# Altium integrated library shared_lib.IntLib: 84 symbols
Pins are listed as number, name and electrical type; pins without a type are passive.

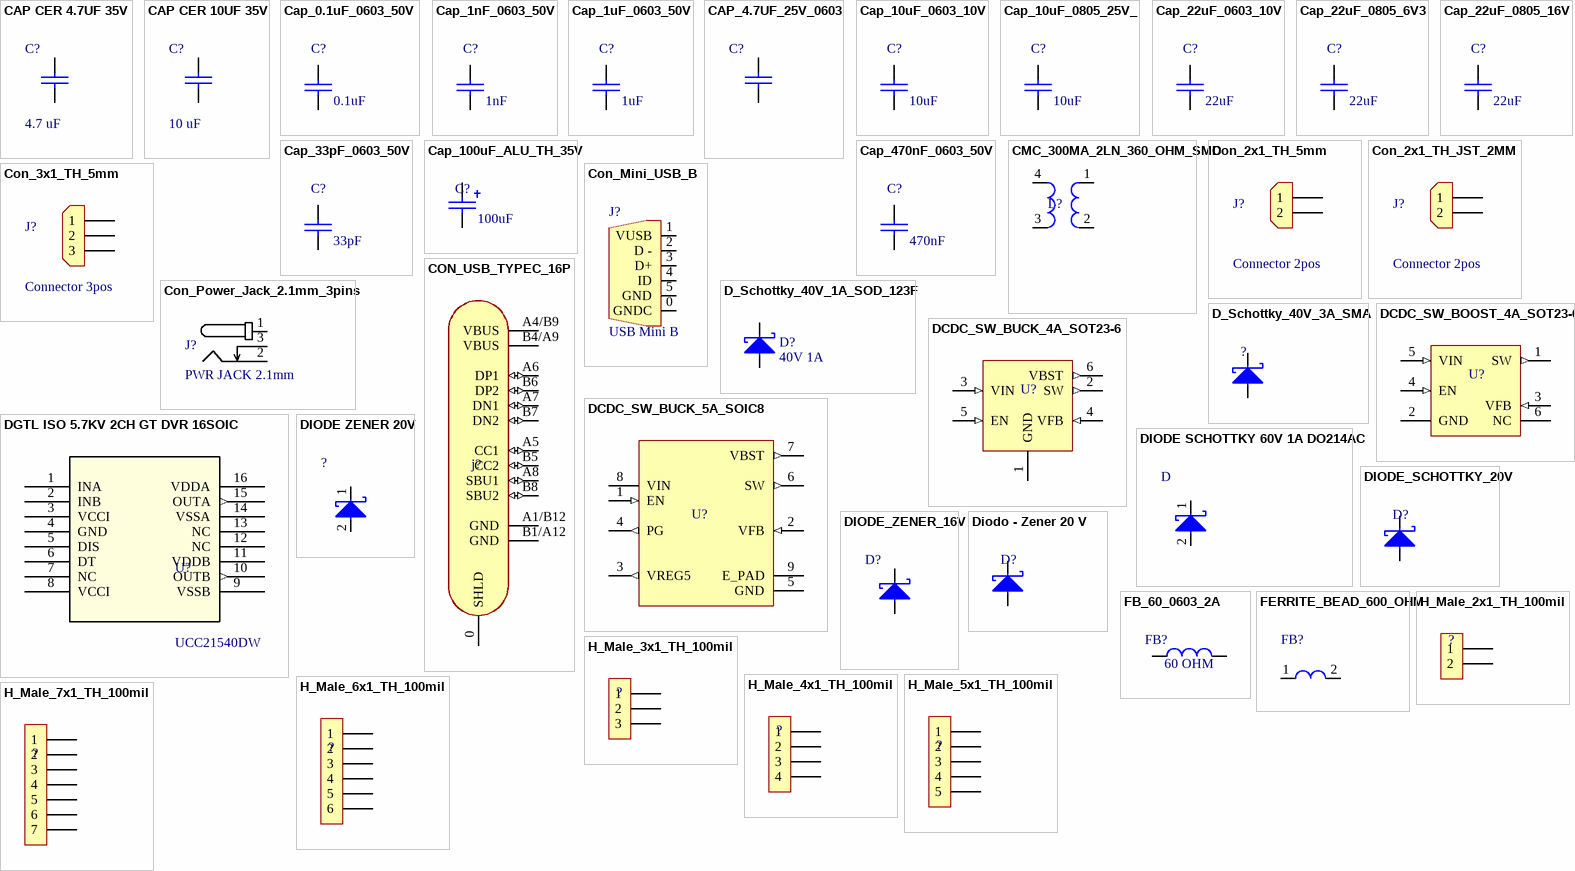
[diagram p0: symbols CAP CER 4.7UF 35V to H_Male_7x1_TH_100mil]

## CAP CER 4.7UF 35V
designator C?, comment 4.7 uF
CAP CER 4.7UF 35V X5R 0603; Manufacturer: Murata Electronics; Manufacturer Part Number: GRM188R6YA475KE15D; ComponentLink1Description: DigiKEy; ComponentLink1URL: https://www.digikey.com/es/products/detail/murata-electronics/GRM188R6YA475KE15D/3900468; Supplier 1: DigiKey; Supplier Part Number 1: 490-7205-2-ND
footprint 0603_cap
pins: 1, 2

## CAP CER 10UF 35V
designator C?, comment 10 uF
CAP CER 10UF 35V X5R 0603; Manufacturer: Murata Electronics; Manufacturer Part Number: GRM188R6YA106MA73J; ComponentLink1Description: DigiKEy; ComponentLink1URL: https://www.digikey.com/es/products/detail/murata-electronics/GRM188R6YA106MA73J/8346265; Supplier 1: DigiKey; Supplier Part Number 1: 490-GRM188R6YA106MA73JCT-ND
footprint 0603_cap
pins: 1, 2

## Cap_0.1uF_0603_50V
designator C?, comment value 0.1uF  (hidden comment: 0.1uF 50V)
50V 100nF Y5V -20%~+80% 0603 Multilayer Ceramic Capacitors MLCC - SMD/SMT ROHS; Manufacturer: Walsin Tech Corp; Manufacturer Part Number: 0603F104Z500CT; Supplier 1: LCSC; Supplier Part Number 1: C83060; ComponentLink1Description: LCSC; ComponentLink1URL: https://www.lcsc.com/product-detail/Multilayer-Ceramic-Capacitors-MLCC-SMD-SMT_Walsin-Tech-Corp-0603F104Z500CT_C83060.html
footprint 0603_cap
pins: 1, 2

## Cap_1nF_0603_50V
designator C?, comment value 1nF  (hidden comment: 1nF 50V)
50V 1nF X7R ±10% 0603 Multilayer Ceramic Capacitors MLCC - SMD/SMT ROHS; Manufacturer: YAGEO; Manufacturer Part Number: CC0603KRX7R9BB102; Supplier 1: LCSC; Supplier Part Number 1: C100040; ComponentLink1Description: LCSC; ComponentLink1URL: https://www.lcsc.com/product-detail/Multilayer-Ceramic-Capacitors-MLCC-SMD-SMT_YAGEO-CC0603KRX7R9BB102_C100040.html
footprint 0603_cap
pins: 1, 2

## Cap_1uF_0603_50V
designator C?, comment value 1uF  (hidden comment: 1uF 50V)
50V 1uF X5R ±10% 0603 Multilayer Ceramic Capacitors MLCC - SMD/SMT ROHS; Manufacturer: Samsung Electro-Mechanics; Manufacturer Part Number: CL10A105KB8NNNC; Supplier 1: LCSC; Supplier Part Number 1: C15849; ComponentLink1Description: LCSC; ComponentLink1URL: https://www.lcsc.com/product-detail/Multilayer-Ceramic-Capacitors-MLCC-SMD-SMT_Samsung-Electro-Mechanics-CL10A105KB8NNNC_C15849.html
footprint 0603_cap
pins: 1, 2

## CAP_4.7UF_25V_0603
designator C?
CAP CER 4.7UF 25V X5R 0603; Manufacturer: Murata Electronics; Manufacturer Part Number: GRM188R61E475KE11D; ComponentLink1Description: DigiKEy; ComponentLink1URL: https://www.digikey.com/es/products/detail/murata-electronics/GRM188R61E475KE11D/3900465; Supplier 1: DigiKey; Supplier Part Number 1: 490-7203-1-ND
footprint 0603_cap
pins: 1, 2

## Cap_10uF_0603_10V
designator C?, comment value 10uF  (hidden comment: 10uF 10V)
10V 10uF X5R ±10% 0603 Multilayer Ceramic Capacitors MLCC - SMD/SMT ROHS; Manufacturer: CCTC; Manufacturer Part Number: TCC0603X5R106K100CT; Supplier 1: LCSC; Supplier Part Number 1: C380314; ComponentLink1Description: LCSC; ComponentLink1URL: https://www.lcsc.com/product-detail/Multilayer-Ceramic-Capacitors-MLCC-SMD-SMT_CCTC-TCC0603X5R106K100CT_C380314.html
footprint 0603_cap
pins: 1, 2

## Cap_10uF_0805_25V_
designator C?, comment value 10uF  (hidden comment: 10uF 25V)
25V 10uF X5R ±10% 0805 Multilayer Ceramic Capacitors MLCC - SMD/SMT ROHS; Manufacturer: Samsung Electro-Mechanics; Manufacturer Part Number: CL21A106KAYNNNE; Supplier 1: LCSC; Supplier Part Number 1: C15850; ComponentLink1Description: LCSC; ComponentLink1URL: https://lcsc.com/product-detail/Multilayer-Ceramic-Capacitors-MLCC-SMD-SMT_Samsung-Electro-Mechanics-CL21A106KAYNNNE_C15850.html
footprint 0805_cap
pins: 1, 2

## Cap_22uF_0603_10V
designator C?, comment value 22uF  (hidden comment: 22uF 10V)
10V 22uF X5R ±20% 0603 Multilayer Ceramic Capacitors MLCC - SMD/SMT ROHS; Manufacturer: HRE; Manufacturer Part Number: CGA0603X5R226M100JT; Supplier 1: LCSC; Supplier Part Number 1: C6119863; ComponentLink1Description: LCSC; ComponentLink1URL: https://lcsc.com/product-detail/Multilayer-Ceramic-Capacitors-MLCC-SMD-SMT_HRE-CGA0603X5R226M100JT_C6119863.html
footprint 0603_cap
pins: 1, 2

## Cap_22uF_0805_6V3
designator C?, comment value 22uF  (hidden comment: 22uF 6V3)
6.3V 22uF X5R ±20% 0805 Multilayer Ceramic Capacitors MLCC - SMD/SMT ROHS; Manufacturer: Samsung Electro-Mechanics; Manufacturer Part Number: CL21A226MQQNNNE; Supplier 1: LCSC; Supplier Part Number 1: C5674; ComponentLink1Description: LCSC; ComponentLink1URL: https://www.lcsc.com/product-detail/Multilayer-Ceramic-Capacitors-MLCC-SMD-SMT_Samsung-Electro-Mechanics-CL21A226MQQNNNE_C5674.html
footprint 0805_cap
pins: 1, 2

## Cap_22uF_0805_16V
designator C?, comment value 22uF  (hidden comment: 22uF 16V)
16V 22uF X5R ±20% 0805 Multilayer Ceramic Capacitors MLCC - SMD/SMT ROHS; Manufacturer: Chinocera; Manufacturer Part Number: HGC0805R5226M160NSLJ; Supplier 1: LCSC; Supplier Part Number 1: C33546008; ComponentLink1Description: LCSC; ComponentLink1URL: https://lcsc.com/product-detail/Multilayer-Ceramic-Capacitors-MLCC-SMD-SMT_Chinocera-HGC0805R5226M160NSLJ_C33546008.html
footprint 0805_cap
pins: 1, 2

## Cap_33pF_0603_50V
designator C?, comment value 33pF  (hidden comment: 33pF 50V)
50V 33pF NP0 ±5% 0603 Multilayer Ceramic Capacitors MLCC - SMD/SMT ROHS; Manufacturer: YAGEO; Manufacturer Part Number: CC0603JRNPO9BN330; Supplier 1: LCSC; Supplier Part Number 1: C107047; ComponentLink1Description: LCSC; ComponentLink1URL: https://www.lcsc.com/product-detail/Multilayer-Ceramic-Capacitors-MLCC-SMD-SMT_YAGEO-CC0603JRNPO9BN330_C107047.html
footprint 0603_cap
pins: 1, 2

## Cap_100uF_ALU_TH_35V
designator C?, comment value 100uF  (hidden comment: 100uF 35V)
100uF 35V ±20% Plugin,D6.3xL12mm Aluminum Electrolytic Capacitors - Leaded ROHS; Manufacturer: HRK; Manufacturer Part Number: 35V100uF CD110; Supplier 1: LCSC; Supplier Part Number 1: C2960381; ComponentLink1Description: LCSC; ComponentLink1URL: https://lcsc.com/product-detail/Aluminum-Electrolytic-Capacitors-Leaded_HRK-35V100uF-CD110_C2960381.html
footprint CAP_TH_2.5MM_6.3*12MM
pins: 1, 2

## Cap_470nF_0603_50V
designator C?, comment value 470nF  (hidden comment: 470nF 50V)
50V 470nF X7R ±10% 0603 Multilayer Ceramic Capacitors MLCC - SMD/SMT ROHS; Manufacturer: Chinocera; Manufacturer Part Number: HGC0603R7474K500NTHJ; Supplier 1: LCSC; Supplier Part Number 1: C33546006; ComponentLink1Description: LCSC; ComponentLink1URL: https://lcsc.com/product-detail/Multilayer-Ceramic-Capacitors-MLCC-SMD-SMT_Chinocera-HGC0603R7474K500NTHJ_C33546006.html
footprint 0603_cap
pins: 1, 2

## CMC_300MA_2LN_360_OHM_SMD
designator L?
2 Obturador de modo común de línea Montaje en superficie 360 Ohms @ 100 MHz 300mA DCR 500mOhm; Manufacturer: Bourns Inc.; Manufacturer Part Number: SRF2012-361YA; ComponentLink1Description: DigiKEy; ComponentLink1URL: https://www.digikey.com/es/products/detail/bourns-inc/SRF2012-361YA/2681268?s=N4IgTCBcDaIMoCUBiYAMBGMBaAzANnQE0BBEAXQF8g; Supplier 1: DigiKey; Supplier Part Number 1: SRF2012-361YACT-ND
footprint SRF2012-361YA
pins: 1, 2, 3, 4

## Con_2x1_TH_5mm
designator J?, comment Connector 2pos
2POS 5MM; Manufacturer: JILN; Manufacturer Part Number: JL126-50002G01; Supplier 1: LCSC; Supplier Part Number 1: C394556; ComponentLink1Description: Digi-Key; ComponentLink1URL: https://www.lcsc.com/product-detail/Screw-terminal_JILN-JL126-50002G01_C394556.html
footprint CON_2x1_TH_5MM
pins: 1, 2

## Con_2x1_TH_JST_2MM
designator J?, comment Connector 2pos
2POS 2MM; Manufacturer: JST; Manufacturer Part Number: S2B-PH-K-S(LF)(SN); Supplier 1: LCSC; Supplier Part Number 1: C173752; ComponentLink1Description: Digi-Key; ComponentLink1URL: https://lcsc.com/product-detail/Wire-To-Board-Connector_JST-S2B-PH-K-S-LF-SN_C173752.html
footprint CON_2x1_TH_2MM (/20190307/N-A.Potosi)
pins: 1, 2

## Con_3x1_TH_5mm
designator J?, comment Connector 3pos
1x3P 10A -40℃~+105℃ 300V Green 14~26 Through Hole 5mm 2.5 1 3 Plugin,P=5mm Screw Terminal Blocks ROHS; Manufacturer: MAX; Manufacturer Part Number: MX126-5.0-03P-GN01-Cu-S-A; Supplier 1: LCSC; Supplier Part Number 1: C5188435; ComponentLink1Description: Digi-Key; ComponentLink1URL: https://lcsc.com/product-detail/Screw-Terminal-Blocks_MAX-MX126-5-0-03P-GN01-Cu-S-A_C5188435.html
footprint CON_3x1_TH_5mm
pins: 1, 2, 3

## Con_Mini_USB_B
designator J?, comment USB Mini B
CONN RCPT USB2.0 MINI B SMD R/A; Manufacturer Part Number: KH-MINI-SMT-5P-Cu; Manufacturer: EDAC Inc.; ComponentLink1Description: LCSC; ComponentLink1URL: https://datasheet.lcsc.com/lcsc/2106070035_Shenzhen-Kinghelm-Elec-KH-MINI-SMT-5P-Cu_C2688795.pdf; Supplier 1: LCSC; Supplier Part Number 1: C2688795
footprint CON_5x1_SMD_miniUSB_B (20190328 / V-A.Patino)
pins: 0 GNDC, 1 VUSB, 2 D -, 3 D+, 4 ID, 5 GND

## Con_Power_Jack_2.1mm_3pins
designator J?, comment PWR JACK 2.1mm
CONN PWR JACK 2X5.5MM SOLDER; Manufacturer: HCTL; Manufacturer Part Number: HC-DC-005-2.0T; Supplier 1: LCSC; Supplier Part Number 1: C3010533; ComponentLink1Description: LCSC; ComponentLink1URL: https://www.lcsc.com/product-detail/AC-DC-Power-Connectors_HCTL-HC-DC-005-2-0T_C3010533.html
footprint CON_POWER_BARREL_2.1MM_3CONN (/ 20190222 / C-A.Serna.A)
pins: 1, 2, 3

## CON_USB_TYPEC_16P
designator j?, comment USB C  (value not drawn)
3A USB 3.1 1 Surface Mount 16P Female -40℃~+85℃ Type-C SMD USB Connectors ROHS; Manufacturer: SHOU HAN; Manufacturer Part Number: TYPE-C-3.1-16PIN; Supplier 1: LCSC; Supplier Part Number 1: C7507405; ComponentLink1Description: LCSC; ComponentLink1URL: https://lcsc.com/product-detail/USB-Connectors_SHOU-HAN-TYPE-C-3-1-16PIN_C7507405.html
footprint CON_USB_C_16P_RA
pins: 0 SHLD, A1/B12 GND (power), A4/B9 VBUS (power), A5 CC1 (io), A6 DP1 (io), A7 DN1 (io), A8 SBU1 (io), B1/A12 GND (power), B4/A9 VBUS (power), B5 CC2 (io), B6 DP2 (io), B7 DN2 (io), B8 SBU2 (io)

## D_Schottky_40V_1A_SOD_123F
designator D?, comment 40V 1A
DIODE SCHOTTKY 40V 1A SOD123F; Manufacturer: Shanghai Prisemi Elec; Manufacturer Part Number: PSBD1DF40V1H; Supplier 1: LCSC; Supplier Part Number 1: C110730; ComponentLink1Description: LCSC; ComponentLink1URL: https://www.lcsc.com/product-detail/Switching-Diode_Shanghai-Prisemi-Elec-PSBD1DF40V1H_C110730.html
footprint SOD_123 (/ 20191030 / V-A.Patino)
pins: 1, 2

## D_Schottky_40V_3A_SMA
designator ?, comment 30V 3A  (value not drawn)
40V Independent 3A 550mV@3A SMA Schottky Diodes ROHS; Manufacturer: TDSEMIC; Manufacturer Part Number: SS34-TD; Supplier 1: LCSC; Supplier Part Number 1: C46550832; ComponentLink1Description: LCSC; ComponentLink1URL: https://lcsc.com/product-detail/Schottky-Diodes_TDSEMIC-SS34-TD_C46550832.html
footprint SMA
pins: 1, 2

## DCDC_SW_BOOST_4A_SOT23-6
designator U?, comment TPS564201DDCR  (value not drawn)
IC REG BUCK ADJ 4A SOT23; Manufacturer: XI'AN Aerosemi Tech; Manufacturer Part Number: MT3608B; Supplier 1: LCSC; Supplier Part Number 1: C19189893; ComponentLink1Description: LCSC; ComponentLink1URL: https://lcsc.com/product-detail/DC-DC-Converters_XI-AN-Aerosemi-Tech-MT3608B_C19189893.html
footprint SOT_23_6 (/ 20190225 / V-A.Patino)
pins: 1 SW (out), 2 GND (power), 3 VFB (in), 4 EN (in), 5 VIN (in), 6 NC

## DCDC_SW_BUCK_4A_SOT23-6
designator U?, comment TPS564201DDCR  (value not drawn)
IC REG BUCK ADJ 4A SOT23; Manufacturer: Texas Instruments; Manufacturer Part Number: TPS564201DDCR; Supplier 1: LCSC; Supplier Part Number 1: C464812; ComponentLink1Description: LCSC; ComponentLink1URL: https://lcsc.com/product-detail/DC-DC-Converters_Texas-Instruments-TPS564201DDCR_C464812.html
footprint SOT_23_6 (/ 20190225 / V-A.Patino)
pins: 1 GND (power), 2 SW (out), 3 VIN (in), 4 VFB (in), 5 EN (in), 6 VBST (out)

## DCDC_SW_BUCK_5A_SOIC8
designator U?, comment TPS56528DDAR  (value not drawn)
IC REG BUCK ADJ 5A 8SOPWR; Manufacturer: Texas Instruments; Manufacturer Part Number: TPS56528DDAR; Supplier 1: LCSC; Supplier Part Number 1: C138716; ComponentLink1Description: LCSC; ComponentLink1URL: https://lcsc.com/product-detail/DC-DC-Converters_Texas-Instruments-TPS56528DDAR_C138716.html
footprint SOIC_8_3.9mm_EP
pins: 1 EN (in), 2 VFB (in), 3 VREG5 (out), 4 PG (out), 5 GND (power), 6 SW (out), 7 VBST (out), 8 VIN (power), 9 E_PAD (power)

## DGTL ISO 5.7KV 2CH GT DVR 16SOIC
designator U?, comment UCC21540DW
4A, 6A Controladores de compuerta Acoplamiento capacitivo 5700Vrms 2 canal 16-SOIC; Manufacturer: Texas Instruments; ComponentLink1Description: DigiKEy; ComponentLink1URL: https://www.digikey.com/es/products/detail/texas-instruments/UCC21540DW/9860890; Supplier 1: DigiKey; Supplier Part Number 1: 296-53088-ND; Manufacturer Part Number: UCC21540DW
footprint UCC21540DW
pins: 1 INA, 2 INB, 3 VCCI (power), 4 GND (power), 5 DIS, 6 DT, 7 NC, 8 VCCI (power), 9 VSSB (power), 10 OUTB (out), 11 VDDB (power), 12 NC, 13 NC, 14 VSSA (power), 15 OUTA (out), 16 VDDA (power)

## DIODE SCHOTTKY 60V 1A DO214AC
designator D
Diodos 60 V 1A Montaje en superficie DO-214AC (SMA); Manufacturer: Taiwan Semiconductor Corporation; Manufacturer Part Number: SS16; ComponentLink1Description: DigiKEy; ComponentLink1URL: https://www.digikey.com/es/products/detail/taiwan-semiconductor-corporation/SS16/7369359; Supplier 1: DigiKey; Supplier Part Number 1: 1801-SS16CT-ND
footprint SS16
pins: 1, 2

## DIODE ZENER 20V
designator ?, comment 20V  (value not drawn)
Diodos 60 V 1A Montaje en superficie DO-214AC (SMA); Manufacturer: Good-Ark Semiconductor; Manufacturer Part Number: MMSZ5250B; ComponentLink1Description: DigiKEy; ComponentLink1URL: https://www.digikey.com/es/products/detail/good-ark-semiconductor/MMSZ5250B/18667706; Supplier 1: DigiKey; Supplier Part Number 1: 4786-MMSZ5250BCT-ND
footprint SOD-123_ONS
pins: 1, 2

## DIODE_SCHOTTKY_20V
designator D?
DIODE SCHOTTKY 20V 500MA SOD123; Manufacturer: onsemi; Manufacturer Part Number: MBR0520LT1G; Supplier 1: DigiKey; Supplier Part Number 1: DigiKey; ComponentLink1Description: DigiKey; ComponentLink1URL: https://www.digikey.com/es/products/detail/onsemi/MBR0520LT1G/918574?s=N4IgTCBcDaILICEBKAGArGFAZAKgRgHEQBdAXyA
footprint SOD-123_ONS
pins: 1, 2

## DIODE_ZENER_16V
designator D?
DIODE ZENER 16V 500MW SOD123; Manufacturer: onsemi; Manufacturer Part Number: MMSZ4703T1G; ComponentLink1Description: DigiKEy; ComponentLink1URL: https://www.digikey.com/es/products/detail/bourns-inc/PAD002-T764113S/15297652?s=N4IgTCBcDaIAoEEAiAGFYC0AVA7ANgBYBGIgZgGUQBdAXyA; Supplier 1: DigiKey; Supplier Part Number 1: MMSZ4703T1GOSCT-ND
footprint SOD-123_ONS
pins: 1, 2

## Diodo - Zener 20 V
designator D?
-55℃~+150℃ 1 Independent 100nA@15V 19V~21V 20V 25Ω 500mW 600Ω SOD-123 Zener Diodes ROHS; Manufacturer: Slkor(SLKORMICRO Elec.); Manufacturer Part Number: MMSZ5250B; Supplier 1: JLCPCB; Supplier Part Number 1: C707177; ComponentLink1Description: JLCPCB; ComponentLink1URL: https://jlcpcb.com/partdetail/Slkor_SLKORMICRO_Elec-MMSZ5250B/C707177
footprint SOD-123_ONS
pins: 1, 2

## FB_60_0603_2A
designator FB?, comment value 60 OHM  (hidden comment: 60OHM 2A)
2A 1 100mΩ 60Ω@100MHz ±25% 0603 Ferrite Beads ROHS; Manufacturer: TAI-TECH; Manufacturer Part Number: HCB1608KF-600T20; ComponentLink1Description: LCSC; ComponentLink1URL: https://www.lcsc.com/product-detail/Ferrite-Beads_TAI-TECH-HCB1608KF-600T20_C369516.html; Supplier 1: LCSC; Supplier Part Number 1: C369516
footprint 0603_fb
pins: 1, 2

## FERRITE_BEAD_600_OHM
designator FB?
FERRITE BEAD 600 OHM 0603 4LN; Manufacturer: Bourns Inc.; Manufacturer Part Number: MH1608-601Y; ComponentLink1Description: DigiKEy; ComponentLink1URL: https://www.digikey.com/en/products/detail/bourns-inc/MH1608-601Y/2563317; Supplier 1: DigiKey; Supplier Part Number 1: MH1608-601YCT-ND
footprint MH1608
pins: 1, 2

## H_Male_2x1_TH_100mil
designator ?, comment 2x1  (value not drawn)  (no BOM)
H_Male_2x1_TH_100mil; ComponentLink1Description: LCSC
footprint H_2x1_TH_100mil
pins: 1, 2

## H_Male_3x1_TH_100mil
designator ?, comment 3x1  (value not drawn)  (no BOM)
H_Male_3x1_TH_100mil; ComponentLink1Description: LCSC
footprint H_3X1_TH_100mil
pins: 1, 2, 3

## H_Male_4x1_TH_100mil
designator ?, comment 4x1  (value not drawn)  (no BOM)
H_Male_4x1_TH_100mil; ComponentLink1Description: LCSC
footprint H_4x1_TH_2.54mm
pins: 1, 2, 3, 4

## H_Male_5x1_TH_100mil
designator ?, comment 5x1  (value not drawn)  (no BOM)
H_Male_5x1_TH_100mil; ComponentLink1Description: LCSC
footprint H_5x1_TH_100mil
pins: 1, 2, 3, 4, 5

## H_Male_6x1_TH_100mil
designator ?, comment 6x1  (value not drawn)  (no BOM)
H_Male_6x1_TH_100mil; ComponentLink1Description: LCSC
footprint H_6x1_TH_100mil
pins: 1, 2, 3, 4, 5, 6

## H_Male_7x1_TH_100mil
designator ?, comment 7x1  (value not drawn)  (no BOM)
H_Male_7x1_TH_100mil; ComponentLink1Description: LCSC
footprint H_7x1_TH_100mil
pins: 1, 2, 3, 4, 5, 6, 7

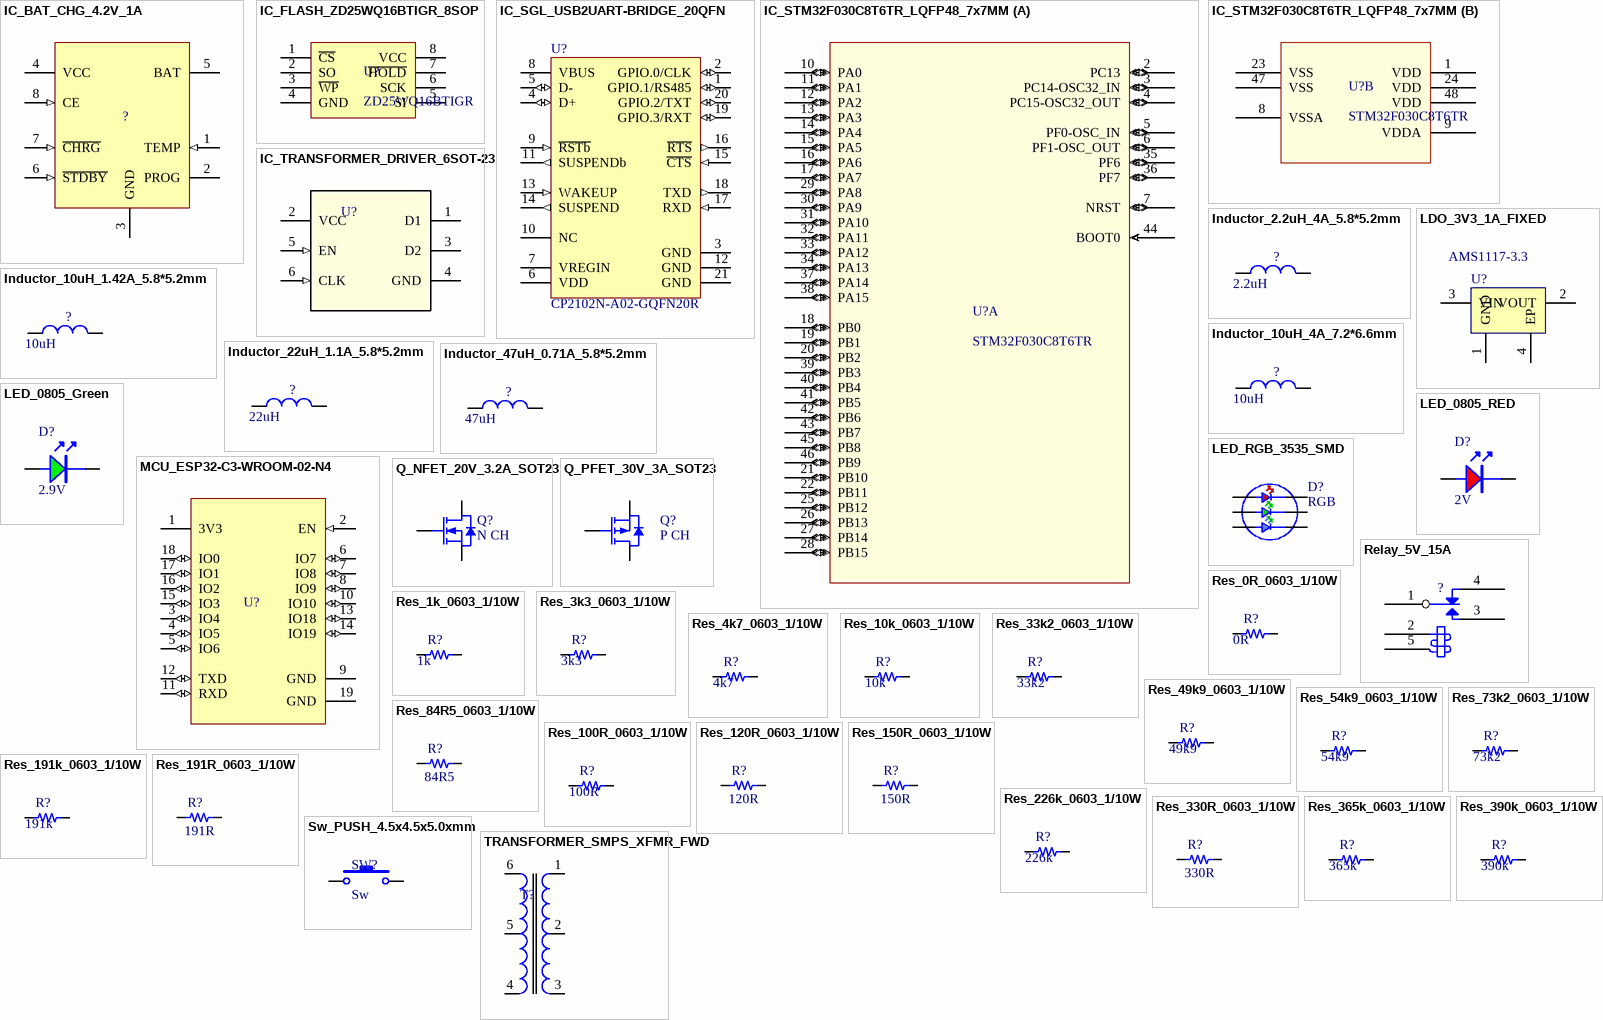
[diagram p1: symbols IC_BAT_CHG_4.2V_1A to TRANSFORMER_SMPS_XFMR_FWD]

## IC_BAT_CHG_4.2V_1A
designator ?, comment 4.2V 1A  (value not drawn)
-300mV~8V Lithium-ion/Polymer 1 1A ESOP-8 Battery Management ROHS; Manufacturer: YONGYUTAI; Manufacturer Part Number: TP4056; Supplier 1: LCSC; Supplier Part Number 1: C20199357; ComponentLink1Description: LCSC; ComponentLink1URL: https://lcsc.com/product-detail/Battery-Management_YONGYUTAI-TP4056_C20199357.html
footprint SOIC_8_3.9mm
pins: 1 TEMP (in), 2 PROG, 3 GND, 4 VCC, 5 BAT (power), 6 ~{STDBY} (in), 7 ~{CHRG} (in), 8 CE (in)

## IC_FLASH_ZD25WQ16BTIGR_8SOP
designator U?, comment ZD25WQ16BTIGR
IC FLASH 16M SPI 85MHZ 8SOP; Manufacturer: Zetta; Manufacturer Part Number: ZD25WQ16BTIGR; Supplier 1: LCSC; Supplier Part Number 1: C2896790; ComponentLink1Description: LCSC; ComponentLink1URL: https://www.lcsc.com/product-detail/NOR-FLASH_Zetta-ZD25WQ16BTIGR_C2896790.html
footprint SOIC_8_3.9mm (/ 20190225 / C-A.Serna.A)
pins: 1 ~{CS}, 2 SO, 3 ~{WP}, 4 GND, 5 SI, 6 SCK, 7 ~{HOLD}, 8 VCC

## IC_SGL_USB2UART-BRIDGE_20QFN
designator U?, comment CP2102N-A02-GQFN20R
IC USB TO UART BRIDGE QFN20; Manufacturer: Silicon Labs; Manufacturer Part Number: CP2102N-A02-GQFN20R; Supplier 1: LCSC; Supplier Part Number 1: C969913; ComponentLink1Description: LCSC; ComponentLink1URL: https://www.lcsc.com/product-detail/USB-ICs_SILICON-LABS-CP2102N-A02-GQFN20R_C969913.html
footprint WFQFN_20_EP_3X3MM (QFN_20/ 20210809/ V-A.Patino)
pins: 1 GPIO.1/RS485 (io), 2 GPIO.0/CLK (io), 3 GND (power) "Ground", 4 D+ (io) "USB Data Positive", 5 D- (io) "USB Data Negative", 6 VDD (power) "Supply Power Input/5V Regulator Output", 7 VREGIN (power) "5V Regulator Input", 8 VBUS (power) "Digital Input. VBUS Sense Input. This pin should be connected to the VBUS signal of a USBnetwork. A 5 V signal on this pin indicates a USB network connection", 9 ~{RSTb} (in) "Active-low Reset", 10 NC "No Connect (leave this pin floating)", 11 SUSPENDb (out) "Digital Output. This pin is driven low when the device enters the USB suspend state.", 12 GND (power) "Ground", 13 WAKEUP (in) "Digital Input. Remote USB wakeup interrupt input.", 14 SUSPEND (out) "Digital Output. This pin is driven high when the device enters the USB suspend state", 15 ~{CTS} (in) "Digital Input. Clear To Send control input (active low).", 16 ~{RTS} (out) "Digital Output. Ready To Send control output (active low).", 17 RXD (in) "Digital Input. Asynchronous data input (UART Receive).", 18 TXD (out) "Digital Output. Asynchronous data output (UART Transmit)", 19 GPIO.3/RXT (io), 20 GPIO.2/TXT (io), 21 GND (power) "Ground"

## IC_STM32F030C8T6TR_LQFP48_7x7MM
designator U?, comment STM32F030C8T6TR
IC MCU 32BIT 64KB FLASH 48LQFP; Manufacturer: STMicroelectronics; Manufacturer part number: STM32F030C8T6TR; Supplier 1: LCSC; Supplier Part Number 1: C23922; ComponentLink1Description: LCSC; ComponentLink1URL: https://www.lcsc.com/product-detail/ST-Microelectronics_STMicroelectronics-STM32F030C8T6_C23922.html
footprint LQFP48_7x7mm
part A pins: 2 PC13 (io), 3 PC14-OSC32_IN (io), 4 PC15-OSC32_OUT (io), 5 PF0-OSC_IN (io), 6 PF1-OSC_OUT (io), 7 NRST (io), 10 PA0 (io), 11 PA1 (io), 12 PA2 (io), 13 PA3 (io), 14 PA4 (io), 15 PA5 (io), 16 PA6 (io), 17 PA7 (io), 18 PB0 (io), 19 PB1 (io), 20 PB2 (io), 21 PB10 (io), 22 PB11 (io), 25 PB12 (io), 26 PB13 (io), 27 PB14 (io), 28 PB15 (io), 29 PA8 (io), 30 PA9 (io), 31 PA10 (io), 32 PA11 (io), 33 PA12 (io), 34 PA13 (io), 35 PF6 (io), 36 PF7 (io), 37 PA14 (io), 38 PA15 (io), 39 PB3 (io), 40 PB4 (io), 41 PB5 (io), 42 PB6 (io), 43 PB7 (io), 44 BOOT0 (in), 45 PB8 (io), 46 PB9 (io)
part B pins: 1 VDD (power), 8 VSSA (power), 9 VDDA (power), 23 VSS (power), 24 VDD (power), 47 VSS (power), 48 VDD (power)

## IC_TRANSFORMER_DRIVER_6SOT-23
designator U?
IC TRANSFORMER DRIVER 6SOT-23; Manufacturer Part Number: SN6505BDBVR; Manufacturer: Texas Instruments; ComponentLink1Description: DigiKey; ComponentLink1URL: https://www.digikey.com/es/products/detail/texas-instruments/SN6505BDBVR/5994596?s=N4IgTCBcDaIMoDkBsBWADCgQgEUwNQCUQBdAXyA; Supplier 1: DigiKey; Supplier Part Number 1: 296-47311-1-ND
footprint IC TRANSFORMER DRIVER 6SOT-23
pins: 1 D1 (oc), 2 VCC (power), 3 D2 (oc), 4 GND (power), 5 EN (in), 6 CLK (in)

## Inductor_2.2uH_4A_5.8*5.2mm
designator ?, comment value 2.2uH  (hidden comment: 2.2uH 4A)
4A 2.2uH ±20% 22.1mΩ SMD,5.8x5.2mm Inductors (SMD) ROHS; Manufacturer: SHOU HAN; Manufacturer Part Number: CY54-2.2UH; Supplier 1: LCSC; Supplier Part Number 1: C2929427; ComponentLink1Description: LCSC; ComponentLink1URL: https://lcsc.com/product-detail/Inductors-SMD_SHOU-HAN-CY54-2-2UH_C2929427.html
footprint Ind_5.8*5.2_NS
pins: 1, 2

## Inductor_10uH_1.42A_5.8*5.2mm
designator ?, comment value 10uH  (hidden comment: 10uH 1.42A)
1.42A 10uH ±10% 87.9mΩ SMD,5.8x5.2mm Inductors (SMD) ROHS; Manufacturer: SHOU HAN; Manufacturer Part Number: CY54-10UH; Supplier 1: LCSC; Supplier Part Number 1: C2929431; ComponentLink1Description: LCSC; ComponentLink1URL: https://lcsc.com/product-detail/Inductors-SMD_SHOU-HAN-CY54-4-7UH_C2929429.html
footprint Ind_5.8*5.2_NS
pins: 1, 2

## Inductor_10uH_4A_7.2*6.6mm
designator ?, comment value 10uH  (hidden comment: 10uH 4A)
4A 2.2uH ±20% 22.1mΩ SMD,5.8x5.2mm Inductors (SMD) ROHS; Manufacturer: SHOU HAN; Manufacturer Part Number: CYA0630-10UH; Supplier 1: LCSC; Supplier Part Number 1: C5189958; ComponentLink1Description: LCSC; ComponentLink1URL: https://lcsc.com/product-detail/Inductors-SMD_SHOU-HAN-CYA0630-10UH_C5189958.html
footprint Ind_7.2*6.6_NS
pins: 1, 2

## Inductor_22uH_1.1A_5.8*5.2mm
designator ?, comment value 22uH  (hidden comment: 22uH 1.1A)
22uH SMD,5.8x5.2mm Inductors (SMD) ROHS; Manufacturer: SHOU HAN; Manufacturer Part Number: CY54-22UH; Supplier 1: LCSC; Supplier Part Number 1: C2879694; ComponentLink1Description: LCSC; ComponentLink1URL: https://lcsc.com/product-detail/Inductors-SMD_SHOU-HAN-CY54-22UH_C2879694.html
footprint Ind_5.8*5.2_NS
pins: 1, 2

## Inductor_47uH_0.71A_5.8*5.2mm
designator ?, comment value 47uH  (hidden comment: 47uH 0.71A)
710mA 47uH ±10% 355mΩ SMD,5.8x5.2mm Inductors (SMD) ROHS; Manufacturer: SHOU HAN; Manufacturer Part Number: CY54-47UH; Supplier 1: LCSC; Supplier Part Number 1: C2929434; ComponentLink1Description: LCSC; ComponentLink1URL: https://lcsc.com/product-detail/Inductors-SMD_SHOU-HAN-CY54-47UH_C2929434.html
footprint Ind_5.8*5.2_NS
pins: 1, 2

## LDO_3V3_1A_FIXED
designator U?, comment AMS1117-3.3
1A 60dB@(120Hz) Fixed 3.3V Positive 18V SOT-223 Linear Voltage Regulators (LDO) ROHS; Manufacturer: UMW(Youtai Semiconductor Co., Ltd.); ComponentLink1Description: LCSC; ComponentLink1URL: https://www.lcsc.com/product-detail/_UMW-Youtai-Semiconductor-Co-Ltd-_C347222.html; Supplier 1: LCSC; Manufacturer Part Number: AMS1117-3.3; Supplier Part Number 1: C347222
footprint SOT_223 (TO-261-4, TO-261AA / 20190829 / M-X.Arias)
pins: 1 GND, 2 VOUT, 3 VIN, 4 EP

## LED_0805_Green
designator D?, comment 2.9V
LED GREEN CLEAR 0805 SMD; Manufacturer: XINGLIGHT; Manufacturer Part Number: XL-2012UGC; Supplier 1: LCSC; Supplier Part Number 1: C965815; ComponentLink1Description: LCSC; ComponentLink1URL: https://www.lcsc.com/product-detail/Light-Emitting-Diodes-LED_XINGLIGHT-XL-2012UGC_C965815.html
footprint 0805_LED
pins: 1 A, 2

## LED_0805_RED
designator D?, comment 2V
LED RED CLEAR 0805 SMD; Manufacturer: XINGLIGHT; Manufacturer Part Number: XL-2012SURC; Supplier 1: LCSC; Supplier Part Number 1: C965812; ComponentLink1Description: LCSC; ComponentLink1URL: https://www.lcsc.com/product-detail/Light-Emitting-Diodes-LED_XINGLIGHT-XL-2012SURC_C965812.html
footprint 0805_LED
pins: 1 A, 2

## LED_RGB_3535_SMD
designator D?, comment RGB
-30℃~+85℃ RGB 110° 3535(mm) Light Emitting Diodes (LED) ROHS; Manufacturer: Foshan NationStar Optoelectronics; Manufacturer Part Number: RS-3535MWAM; Supplier 1: LCSC; Supplier Part Number 1: C842778; ComponentLink1Description: LCSC; ComponentLink1URL: https://www.lcsc.com/product-detail/Light-Emitting-Diodes-LED_Foshan-NationStar-Optoelectronics-RS-3535MWAM_C842778.html
footprint RGB_NS_3.5X3.7
pins: 1, 2, 3, 4, 5, 6

## MCU_ESP32-C3-WROOM-02-N4
designator U?, comment ESP32-C3-WROOM-02-N4  (value not drawn)
RF TXRX MOD BT WIFI PCB TH SMD; Manufacturer: Espressif Systems; Manufacturer Part Number: ESP32-C3-WROOM-02-N4; Supplier 1: LCSC; Supplier Part Number 1: C2934560; ComponentLink1Description: LCSC; ComponentLink1URL: https://lcsc.com/product-detail/WiFi-Modules_Espressif-Systems-ESP32-C3-WROOM-02-N4_C2934560.html
footprint ESP32-C3-WROOM-02-N4
pins: 1 3V3 (power), 2 EN (in), 3 IO4 (io), 4 IO5 (io), 5 IO6 (io), 6 IO7 (io), 7 IO8 (io), 8 IO9 (io), 9 GND (power), 10 IO10 (io), 11 RXD (io), 12 TXD (io), 13 IO18 (io), 14 IO19 (io), 15 IO3 (io), 16 IO2 (io), 17 IO1 (io), 18 IO0 (io), 19 GND (power)

## Q_NFET_20V_3.2A_SOT23
designator Q?, comment N CH
MOSFET N-CH 20V SOT23; Manufacturer: Doeshare; Manufacturer Part Number: DN2302S; Supplier 1: LCSC; Supplier Part Number 1: C2931750; ComponentLink1Description: LCSC; ComponentLink1URL: https://www.lcsc.com/product-detail/MOSFETs_Doeshare-DN2302S_C2931750.html
footprint SOT_23_3 (TO-236-3, SC-59/ 20220901 / V-A.Patino)
pins: 1 G, 2 S, 3 D

## Q_PFET_30V_3A_SOT23
designator Q?, comment P CH
MOSFET P-CH 20V 3A SOT23; Manufacturer: ALLPOWER(ShenZhen Quan Li Semiconductor); Manufacturer Part Number: AP2301; Supplier 1: LCSC; Supplier Part Number 1: C385296; ComponentLink1Description: LCSC; ComponentLink1URL: https://www.lcsc.com/product-detail/MOSFETs_ALLPOWER-ShenZhen-Quan-Li-Semiconductor-AP2301_C385296.html
footprint SOT_23_3 (TO-236-3, SC-59/ 20220901 / V-A.Patino)
pins: 1 G, 2 S, 3 D

## Relay_5V_15A
designator ?, comment V_15A  (value not drawn)
250V@AC 5V 15A 1 Form C: 1C (SPDT-CO) Plugin,15.6x19.2mm Power Relays ROHS; Manufacturer: Ningbo Songle Relay; Manufacturer Part Number: SRD-05VDC-SL-C; Supplier 1: LCSC; Supplier Part Number 1: C35449; ComponentLink1Description: LCSC; ComponentLink1URL: https://lcsc.com/product-detail/Power-Relays_Ningbo-Songle-Relay-SRD-05VDC-SL-C_C35449.html
footprint Relay_5V_15A
pins: 1, 2, 3, 4, 5

## Res_0R_0603_1/10W
designator R?, comment value 0R  (hidden comment: 0R 1/10W)
RES SMD 0R OHM 5% 1/10W 0603; Manufacturer: FOJAN; Manufacturer Part Number: FRC0603P000 TS; ComponentLink1URL: https://www.lcsc.com/product-detail/Chip-Resistor-Surface-Mount_FOJAN-FRC0603P000-TS_C2907080.html; Supplier 1: LCSC; Supplier Part Number 1: C2907080; ComponentLink1Description: LCSC
footprint 0603_res (1608 Metric / 20190225 / C-A.Serna.A)
pins: 1, 2

## Res_1k_0603_1/10W
designator R?, comment value 1k  (hidden comment: 1k 1/10W)
RES SMD 1k OHM 5% 1/10W 0603; Manufacturer: FOJAN; Manufacturer Part Number: FRC0603J102 TS; ComponentLink1URL: https://www.lcsc.com/product-detail/Chip-Resistor-Surface-Mount_FOJAN-FRC0603J102-TS_C2907113.html; Supplier 1: LCSC; Supplier Part Number 1: C2907113; ComponentLink1Description: LCSC
footprint 0603_res (1608 Metric / 20190225 / C-A.Serna.A)
pins: 1, 2

## Res_3k3_0603_1/10W
designator R?, comment value 3k3  (hidden comment: 3k3 1/10W)
RES SMD 3k3 OHM 5% 1/10W 0603; Manufacturer: FOJAN; Manufacturer Part Number: FRC0603J332 TS; ComponentLink1URL: https://www.lcsc.com/product-detail/Chip-Resistor-Surface-Mount_FOJAN-FRC0603J332-TS_C2907140.html; Supplier 1: LCSC; Supplier Part Number 1: C2907140; ComponentLink1Description: LCSC
footprint 0603_res (1608 Metric / 20190225 / C-A.Serna.A)
pins: 1, 2

## Res_4k7_0603_1/10W
designator R?, comment value 4k7  (hidden comment: 4k7 1/10W)
100mW Thick Film Resistor 75V ±1% 4.7kΩ 0603 Chip Resistor - Surface Mount ROHS; Manufacturer: VO; Manufacturer Part Number: SCR0603F4K7; ComponentLink1URL: https://lcsc.com/product-detail/Chip-Resistor-Surface-Mount_VO-SCR0603F4K7_C3016318.html; Supplier 1: LCSC; Supplier Part Number 1: C3016318; ComponentLink1Description: LCSC
footprint 0603_res (1608 Metric / 20190225 / C-A.Serna.A)
pins: 1, 2

## Res_10k_0603_1/10W
designator R?, comment value 10k  (hidden comment: 10k 1/10W)
RES SMD 10k OHM 5% 1/10W 0603; Manufacturer: FOJAN; Manufacturer Part Number: FRC0603J103TS; ComponentLink1URL: https://www.lcsc.com/product-detail/Chip-Resistor-Surface-Mount_FOJAN-FRC0603J103TS_C2930027.html; Supplier 1: LCSC; Supplier Part Number 1: C2930027; ComponentLink1Description: LCSC
footprint 0603_res (1608 Metric / 20190225 / C-A.Serna.A)
pins: 1, 2

## Res_33k2_0603_1/10W
designator R?, comment value 33k2  (hidden comment: 33k2 1/10W)
100mW Thick Film Resistor 75V ±100ppm/℃ ±1% 33.2kΩ 0603 Chip Resistor - Surface Mount ROHS; Manufacturer: YAGEO; Manufacturer Part Number: RC0603FR-0733K2L; ComponentLink1URL: https://lcsc.com/product-detail/Chip-Resistor-Surface-Mount_YAGEO-RC0603FR-0733K2L_C185338.html; Supplier 1: LCSC; Supplier Part Number 1: C185338; ComponentLink1Description: LCSC
footprint 0603_res (1608 Metric / 20190225 / C-A.Serna.A)
pins: 1, 2

## Res_49k9_0603_1/10W
designator R?, comment value 49k9  (hidden comment: 49k9 1/10W)
100mW Thick Film Resistor 75V ±100ppm/℃ ±1% 49.9kΩ 0603 Chip Resistor - Surface Mount ROHS; Manufacturer: YAGEO; Manufacturer Part Number: RC0603FR-0749K9L; ComponentLink1URL: https://lcsc.com/product-detail/Chip-Resistor-Surface-Mount_YAGEO-RC0603FR-0749K9L_C114624.html; Supplier 1: LCSC; Supplier Part Number 1: C114624; ComponentLink1Description: LCSC
footprint 0603_res (1608 Metric / 20190225 / C-A.Serna.A)
pins: 1, 2

## Res_54k9_0603_1/10W
designator R?, comment value 54k9  (hidden comment: 54k9 1/10W)
100mW Thick Film Resistor 75V ±100ppm/℃ ±1% 54.9kΩ 0603 Chip Resistor - Surface Mount ROHS; Manufacturer: YAGEO; Manufacturer Part Number: RC0603FR-0754K9L; ComponentLink1URL: https://lcsc.com/product-detail/Chip-Resistor-Surface-Mount_YAGEO-RC0603FR-0754K9L_C185321.html; Supplier 1: LCSC; Supplier Part Number 1: C185321; ComponentLink1Description: LCSC
footprint 0603_res (1608 Metric / 20190225 / C-A.Serna.A)
pins: 1, 2

## Res_73k2_0603_1/10W
designator R?, comment value 73k2  (hidden comment: 73k2 1/10W)
100mW Thick Film Resistor 75V ±100ppm/℃ ±1% 73.2kΩ 0603 Chip Resistor - Surface Mount ROHS; Manufacturer: YAGEO; Manufacturer Part Number: RC0603FR-0773K2L; ComponentLink1URL: https://lcsc.com/product-detail/Chip-Resistor-Surface-Mount_YAGEO-RC0603FR-0773K2L_C163420.html; Supplier 1: LCSC; Supplier Part Number 1: C163420; ComponentLink1Description: LCSC
footprint 0603_res (1608 Metric / 20190225 / C-A.Serna.A)
pins: 1, 2

## Res_84R5_0603_1/10W
designator R?, comment value 84R5  (hidden comment: 84R5 1/10W)
100mW Thick Film Resistor 50V ±100ppm/℃ ±1% 84.5Ω 0603 Chip Resistor - Surface Mount ROHS; Manufacturer: LIZ Elec; Manufacturer Part Number: CR0603FA84R5G; ComponentLink1URL: https://lcsc.com/product-detail/Chip-Resistor-Surface-Mount_LIZ-Elec-CR0603FA84R5G_C101216.html; Supplier 1: LCSC; Supplier Part Number 1: C101216; ComponentLink1Description: LCSC
footprint 0603_res (1608 Metric / 20190225 / C-A.Serna.A)
pins: 1, 2

## Res_100R_0603_1/10W
designator R?, comment value 100R  (hidden comment: 100R 1/10W)
RES SMD 100R OHM 5% 1/10W 0603; Manufacturer: FOJAN; Manufacturer Part Number: FRC0603J101 TS; ComponentLink1URL: https://www.lcsc.com/product-detail/Chip-Resistor-Surface-Mount_FOJAN-FRC0603J101-TS_C2907089.html; Supplier 1: LCSC; Supplier Part Number 1: C2907089; ComponentLink1Description: LCSC
footprint 0603_res (1608 Metric / 20190225 / C-A.Serna.A)
pins: 1, 2

## Res_120R_0603_1/10W
designator R?, comment value 120R  (hidden comment: 120R 1/10W)
100mW Thick Film Resistor 75V ±100ppm/℃ ±1% 120Ω 0603 Chip Resistor - Surface Mount ROHS; Manufacturer: FOJAN; Manufacturer Part Number: FRC0603F1200TS; ComponentLink1URL: https://lcsc.com/product-detail/Chip-Resistor-Surface-Mount_FOJAN-FRC0603F1200TS_C2906988.html; Supplier 1: LCSC; Supplier Part Number 1: C2906988; ComponentLink1Description: LCSC
footprint 0603_res (1608 Metric / 20190225 / C-A.Serna.A)
pins: 1, 2

## Res_150R_0603_1/10W
designator R?, comment value 150R  (hidden comment: 150R 1/10W)
100mW Thick Film Resistor 75V ±100ppm/℃ ±1% 150Ω 0603 Chip Resistor - Surface Mount ROHS; Manufacturer: RALEC; Manufacturer Part Number: RTT031500FTP; ComponentLink1URL: https://lcsc.com/product-detail/Chip-Resistor-Surface-Mount_RALEC-RTT031500FTP_C103302.html; Supplier 1: LCSC; Supplier Part Number 1: C103302; ComponentLink1Description: LCSC
footprint 0603_res (1608 Metric / 20190225 / C-A.Serna.A)
pins: 1, 2

## Res_191k_0603_1/10W
designator R?, comment value 191k  (hidden comment: 191k 1/10W)
100mW Thick Film Resistor 75V ±100ppm/℃ ±1% 191kΩ 0603 Chip Resistor - Surface Mount ROHS; Manufacturer: YAGEO; Manufacturer Part Number: AC0603FR-07191KL; ComponentLink1URL: https://lcsc.com/product-detail/Chip-Resistor-Surface-Mount_YAGEO-AC0603FR-07191KL_C227635.html; Supplier 1: LCSC; Supplier Part Number 1: C227635; ComponentLink1Description: LCSC
footprint 0603_res (1608 Metric / 20190225 / C-A.Serna.A)
pins: 1, 2

## Res_191R_0603_1/10W
designator R?, comment value 191R  (hidden comment: 191R 1/10W)
100mW Thick Film Resistor 75V ±100ppm/℃ ±1% 191Ω 0603 Chip Resistor - Surface Mount ROHS; Manufacturer: FOJAN; Manufacturer Part Number: FRC0603F1910TS; ComponentLink1URL: https://lcsc.com/product-detail/Chip-Resistor-Surface-Mount_FOJAN-FRC0603F1910TS_C3000718.html; Supplier 1: LCSC; Supplier Part Number 1: C3000718; ComponentLink1Description: LCSC
footprint 0603_res (1608 Metric / 20190225 / C-A.Serna.A)
pins: 1, 2

## Res_226k_0603_1/10W
designator R?, comment value 226k  (hidden comment: 226k 1/10W)
100mW Thick Film Resistors 75V ±100ppm/℃ ±1% 226kΩ 0603 Chip Resistor - Surface Mount ROHS; Manufacturer: YAGEO; Manufacturer Part Number: RC0603FR-07226KL; ComponentLink1URL: https://lcsc.com/product-detail/Chip-Resistor-Surface-Mount_YAGEO-RC0603FR-07226KL_C165744.html; Supplier 1: LCSC; Supplier Part Number 1: C165744; ComponentLink1Description: LCSC
footprint 0603_res (1608 Metric / 20190225 / C-A.Serna.A)
pins: 1, 2

## Res_330R_0603_1/10W
designator R?, comment value 330R  (hidden comment: 330R 1/10W)
RES SMD 330R OHM 5% 1/10W 0603; Manufacturer: FOJAN; Manufacturer Part Number: FRC0603J331 TS; ComponentLink1URL: https://www.lcsc.com/product-detail/Chip-Resistor-Surface-Mount_FOJAN-FRC0603J331-TS_C2907152.html; Supplier 1: LCSC; Supplier Part Number 1: C2907152; ComponentLink1Description: LCSC
footprint 0603_res (1608 Metric / 20190225 / C-A.Serna.A)
pins: 1, 2

## Res_365k_0603_1/10W
designator R?, comment value 365k  (hidden comment: 365k 1/10W)
100mW Thick Film Resistor 75V ±100ppm/℃ ±1% 365kΩ 0603 Chip Resistor - Surface Mount ROHS; Manufacturer: YAGEO; Manufacturer Part Number: RC0603FR-07365KL; ComponentLink1URL: https://lcsc.com/product-detail/Chip-Resistor-Surface-Mount_YAGEO-RC0603FR-07365KL_C185336.html; Supplier 1: LCSC; Supplier Part Number 1: C185336; ComponentLink1Description: LCSC
footprint 0603_res (1608 Metric / 20190225 / C-A.Serna.A)
pins: 1, 2

## Res_390k_0603_1/10W
designator R?, comment value 390k  (hidden comment: 390k 1/10W)
100mW Thick Film Resistor 75V ±100ppm/℃ ±1% 390kΩ 0603 Chip Resistor - Surface Mount ROHS; Manufacturer: YAGEO; Manufacturer Part Number: RC0603FR-07390KL; ComponentLink1URL: https://lcsc.com/product-detail/Chip-Resistor-Surface-Mount_YAGEO-RC0603FR-07390KL_C137735.html; Supplier 1: LCSC; Supplier Part Number 1: C137735; ComponentLink1Description: LCSC
footprint 0603_res (1608 Metric / 20190225 / C-A.Serna.A)
pins: 1, 2

## Sw_PUSH_4.5x4.5x5.0xmm
designator SW?, comment Sw
SWITCH TACTILE SPST-NO 0.05A 12V; Manufacturer: BZCN; Manufacturer Part Number: TSC015A05026A; Supplier 1: LCSC; Supplier Part Number 1: C2888509; Last modified by: N-A.Potosi; Last modified date: 20190222; ComponentLink1Description: LCSC; ComponentLink1URL: https://www.lcsc.com/product-detail/Tactile-Switches_BZCN-TSC015A05026A_C2888509.html
footprint Sw_PUSH_4.5x4.5x5mm
pins: 1, 2

## TRANSFORMER_SMPS_XFMR_FWD
designator T?
XFMR FWD P-P DC/DC CONV 475UH SM; Manufacturer: Bourns Inc.; Manufacturer Part Number: PAD002-T764113S; ComponentLink1Description: DigiKEy; ComponentLink1URL: https://www.digikey.com/es/products/detail/bourns-inc/PAD002-T764113S/15297652?s=N4IgTCBcDaIAoEEAiAGFYC0AVA7ANgBYBGIgZgGUQBdAXyA; Supplier 1: DigiKey; Supplier Part Number 1: 118-PAD002-T764113SCT-ND
footprint PAD002-T764113S
pins: 1, 2, 3, 4, 5, 6

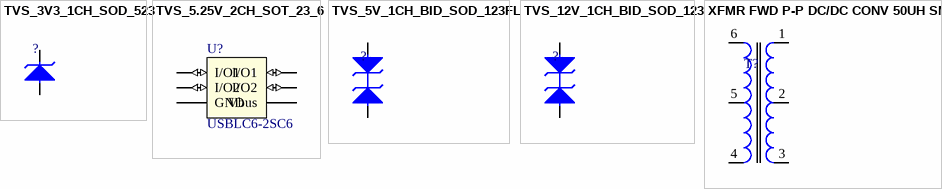
[diagram p2: symbols TVS_3V3_1CH_SOD_523 to XFMR FWD P-P DC/DC CONV 50UH SMD]

## TVS_3V3_1CH_SOD_523
designator ?
11.2A@8/20us 200W@8/20us 14.1V 5V Unidirectional 3.3V SOD-523 ESD and Surge Protection (TVS/ESD) ROHS; Manufacturer: LRC; Manufacturer Part Number: LESD5Z3.3T1G; Supplier 1: LCSC; Supplier Part Number 1: C136161; ComponentLink1Description: LCSC; ComponentLink1URL: https://lcsc.com/product-detail/ESD-and-Surge-Protection-TVS-ESD_LRC-LESD5Z3-3T1G_C136161.html
footprint SOD_523
pins: 1, 2

## TVS_5.25V_2CH_SOT_23_6
designator U?, comment USBLC6-2SC6
TVS DIODE 5.25V 17V SOT23-6; Manufacturer: STMicroelectronics; ComponentLink1Description: LCSC; ComponentLink1URL: https://www.lcsc.com/product-detail/ESD-Protection-Devices_STMicroelectronics-USBLC6-2SC6_C7519.html; Supplier 1: LCSC; Manufacturer Part Number: USBLC6-2SC6; Supplier Part Number 1: C7519
footprint SOT_23_6 (/ 20190225 / V-A.Patino)
pins: 1 I/O1 (io), 2 GND (power), 3 I/O2 (io), 4 I/O2 (io), 5 Vbus (power), 6 I/O1 (io)

## TVS_5V_1CH_BID_SOD_123FL
designator ?, comment TVS 12V  (value not drawn)
21.7A 200W@10/1000us 9.2V 7V Bidirectional 5V SOD-123FL ESD and Surge Protection (TVS/ESD) ROHS; Manufacturer: TDSEMIC; Manufacturer Part Number: SMF5.0CA; Supplier 1: LCSC; Supplier Part Number 1: C46956338; ComponentLink1Description: LCSC; ComponentLink1URL: https://lcsc.com/product-detail/ESD-and-Surge-Protection-TVS-ESD_TDSEMIC-SMF5-0CA_C46956338.html
footprint SOD_123FL
pins: 1, 2

## TVS_12V_1CH_BID_SOD_123
designator ?, comment TVS 12V  (value not drawn)
10.1A 19.9V 200W 14.7V 13.3V SOD-123 ESD and Surge Protection (TVS/ESD) ROHS; Manufacturer: FUXINSEMI; Manufacturer Part Number: SMF12CA; Supplier 1: LCSC; Supplier Part Number 1: C6807794; ComponentLink1Description: LCSC; ComponentLink1URL: https://lcsc.com/product-detail/ESD-and-Surge-Protection-TVS-ESD_FUXINSEMI-SMF12CA_C6807794.html
footprint SOD_123FL
pins: 1, 2

## XFMR FWD P-P DC/DC CONV 50UH SMD
designator T?
Convertidores de empuje y extracción directos para Para conversores CC/CC transformadores SMPS 3750Vrms Aislamiento 420kHz Montaje en superficie; Manufacturer: Wurth Elektronik; Manufacturer Part Number: 750342879; ComponentLink1Description: JLCPCB; ComponentLink1URL: https://jlcpcb.com/partdetail/WURTHELEKTRONIK-750342879/C5343012; Supplier 1: JLCPCB; Supplier Part Number 1: C5343012
footprint 750342879
pins: 1, 2, 3, 4, 5, 6